# EAGLE library part BLUECHINA (library nds_cart1)
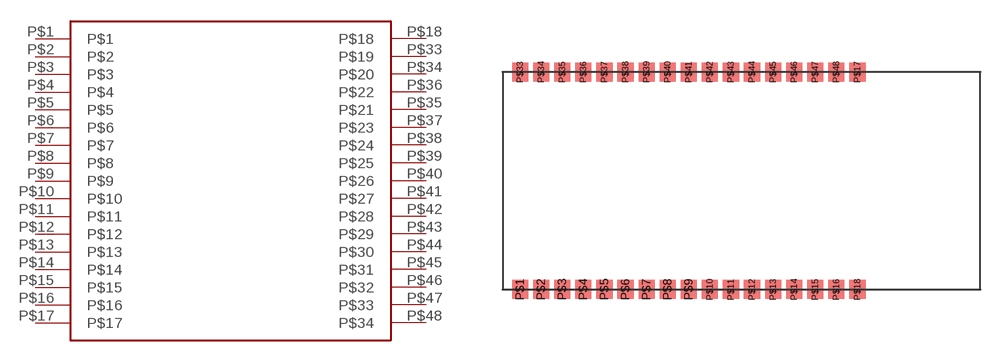
[diagram p1: symbol with the pads of BLUECHINA; footprint BLUECHINA]

Designator prefix -

## BLUECHINA  [BLUECHINA]
P$1  P$1
P$2  P$2
P$3  P$3
P$4  P$4
P$5  P$5
P$6  P$6
P$7  P$7
P$8  P$8
P$9  P$9
P$10  P$10
P$11  P$11
P$12  P$12
P$13  P$13
P$14  P$14
P$15  P$15
P$16  P$16
P$17  P$17
P$18  P$18
P$33  P$19
P$34  P$20
P$35  P$21
P$36  P$22
P$37  P$23
P$38  P$24
P$39  P$25
P$40  P$26
P$41  P$27
P$42  P$28
P$43  P$29
P$44  P$30
P$45  P$31
P$46  P$32
P$47  P$33
P$48  P$34

## Footprint BLUECHINA (pad centres in mm)
smd 1.15 x 1.35: P$1 1.25,0; P$2 2.75,0; P$3 4.25,0; P$4 5.75,0; P$5 7.25,0; P$6 8.75,0; P$7 10.25,0; P$8 11.75,0; P$9 13.25,0; P$10 14.75,0; P$11 16.25,0; P$12 17.75,0; P$13 19.25,0; P$14 20.75,0; P$15 22.25,0; P$16 23.75,0; P$17 25.25,15.5; P$18 25.25,0; P$33 1.25,15.5; P$34 2.75,15.5; P$35 4.25,15.5; P$36 5.75,15.5; P$37 7.25,15.5; P$38 8.75,15.5; P$39 10.25,15.5; P$40 11.75,15.5; P$41 13.25,15.5; P$42 14.75,15.5; P$43 16.25,15.5; P$44 17.75,15.5; P$45 19.25,15.5; P$46 20.75,15.5; P$47 22.25,15.5; P$48 23.75,15.5